# EAGLE library part D8-3C (library 1N5822)
4 DIODES SIL, cathode marked
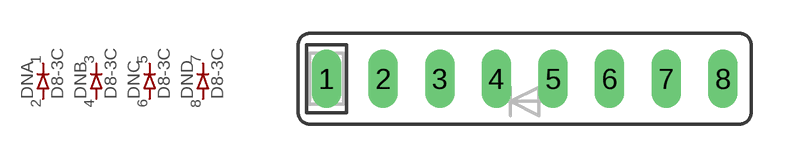
[diagram p2: symbol with the pads of SIL08C; footprint SIL08C]

Designator prefix DN; gates A=DN B=DN C=DN D=DN

## D8-3C  [SIL08C]
1  A:C  pas
2  A:A  pas
3  B:C  pas
4  B:A  pas
5  C:C  pas
6  C:A  pas
7  D:C  pas
8  D:A  pas

## Footprint SIL08C (pad centres in mm)
7 DIODES single in line 7 diodes with common cathode
drill 0.813 long: 1 -8.89,0; 2 -6.35,0; 3 -3.81,0; 4 -1.27,0; 5 1.27,0; 6 3.81,0; 7 6.35,0; 8 8.89,0